# Altium schematic symbol library SCH - MCU - STM32 - ST MICROELECTRONICS STM32F423ZHJX UFBGA144.SchLib: 1 symbol
Pins are listed as number, name and electrical type; pins without a type are passive.

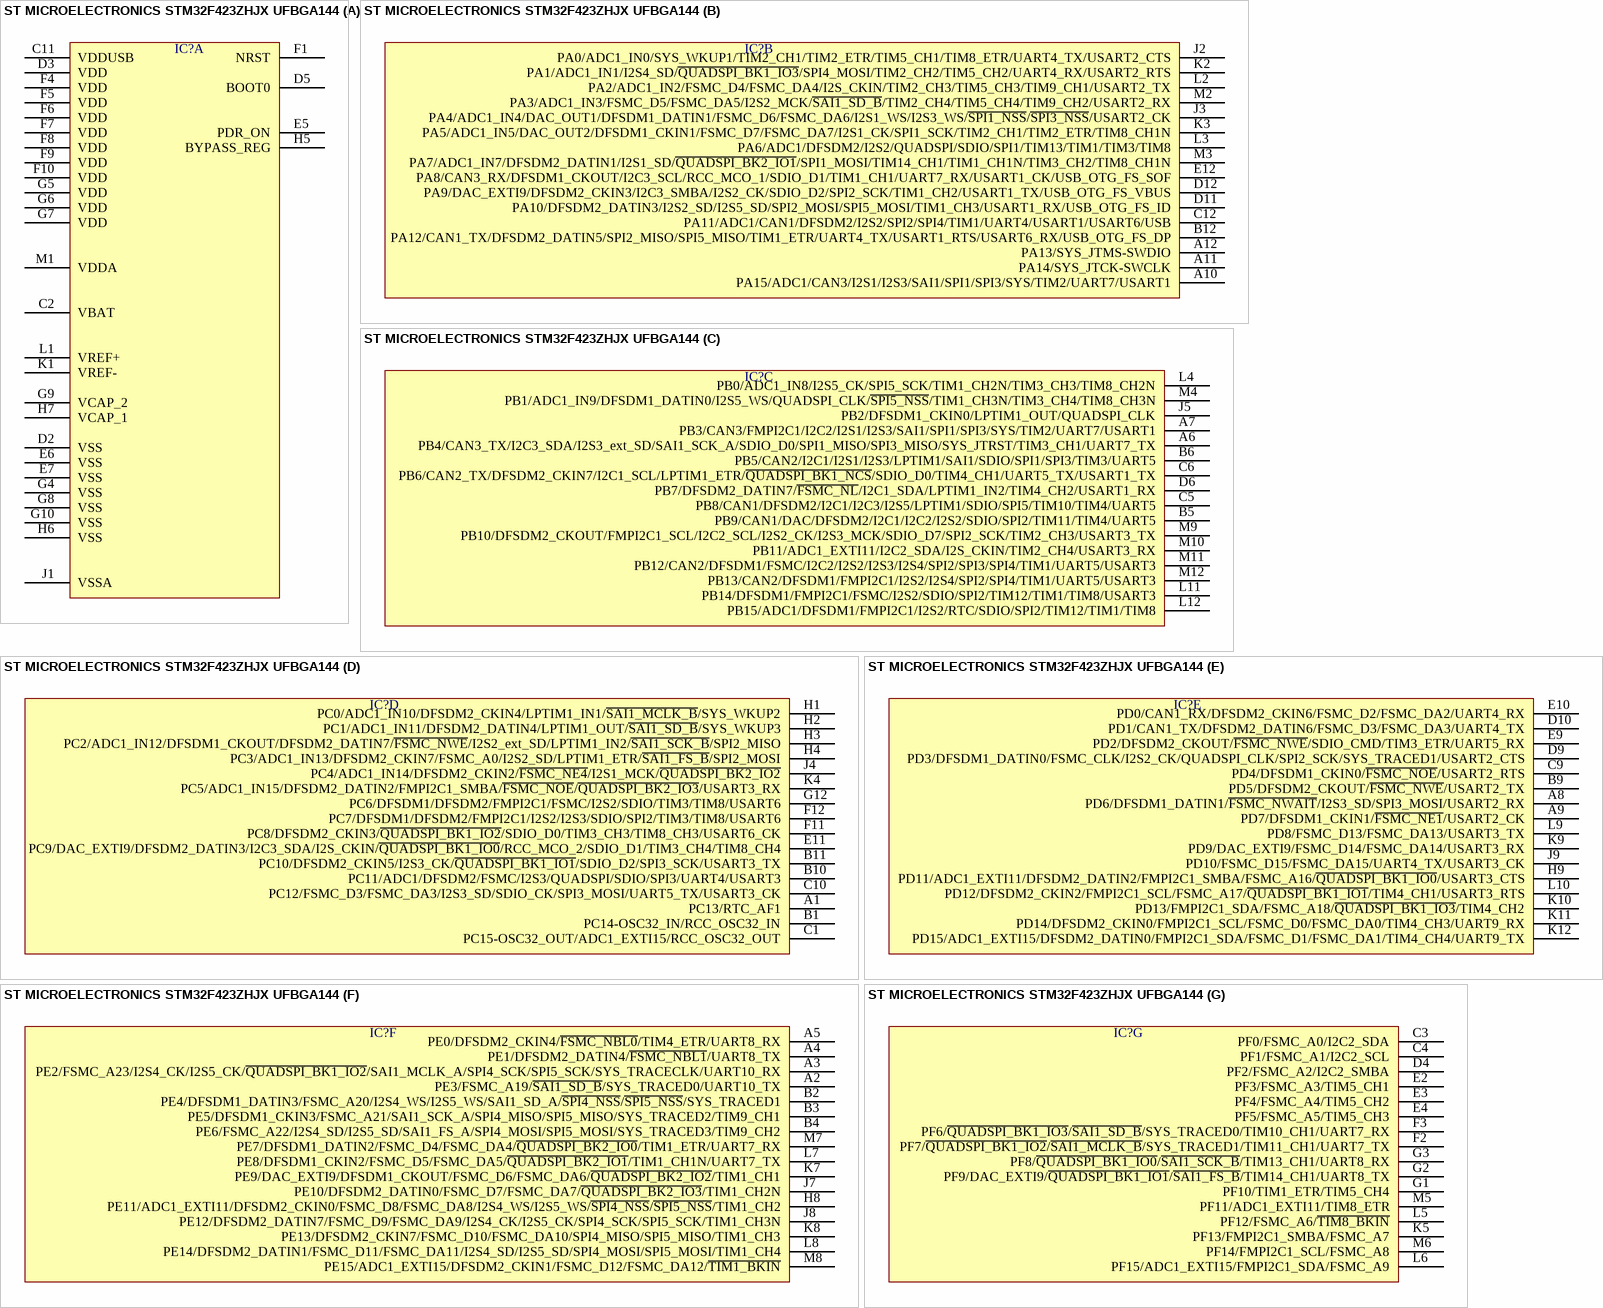
[diagram p0: symbol ST MICROELECTRONICS STM32F423ZHJX UFBGA144]

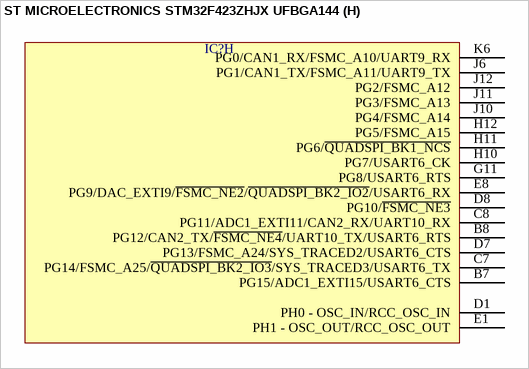
[diagram p1: symbol ST MICROELECTRONICS STM32F423ZHJX UFBGA144]

## ST MICROELECTRONICS STM32F423ZHJX UFBGA144
designator IC?  (value not drawn)
part A pins: C2 VBAT, C11 VDDUSB, D2 VSS, D3 VDD, D5 BOOT0, E5 PDR_ON, E6 VSS, E7 VSS, F1 NRST, F4 VDD, F5 VDD, F6 VDD, F7 VDD, F8 VDD, F9 VDD, F10 VDD, G4 VSS, G5 VDD, G6 VDD, G7 VDD, G8 VSS, G9 VCAP_2, G10 VSS, H5 BYPASS_REG, H6 VSS, H7 VCAP_1, J1 VSSA, K1 VREF-, L1 VREF+, M1 VDDA
part B pins: A10 PA15/ADC1/CAN3/I2S1/I2S3/SAI1/SPI1/SPI3/SYS/TIM2/UART7/USART1, A11 PA14/SYS_JTCK-SWCLK, A12 PA13/SYS_JTMS-SWDIO, B12 PA12/CAN1_TX/DFSDM2_DATIN5/SPI2_MISO/SPI5_MISO/TIM1_ETR/UART4_TX/USART1_RTS/USART6_RX/USB_OTG_FS_DP, C12 PA11/ADC1/CAN1/DFSDM2/I2S2/SPI2/SPI4/TIM1/UART4/USART1/USART6/USB, D11 PA10/DFSDM2_DATIN3/I2S2_SD/I2S5_SD/SPI2_MOSI/SPI5_MOSI/TIM1_CH3/USART1_RX/USB_OTG_FS_ID, D12 PA9/DAC_EXTI9/DFSDM2_CKIN3/I2C3_SMBA/I2S2_CK/SDIO_D2/SPI2_SCK/TIM1_CH2/USART1_TX/USB_OTG_FS_VBUS, E12 PA8/CAN3_RX/DFSDM1_CKOUT/I2C3_SCL/RCC_MCO_1/SDIO_D1/TIM1_CH1/UART7_RX/USART1_CK/USB_OTG_FS_SOF, J2 PA0/ADC1_IN0/SYS_WKUP1/TIM2_CH1/TIM2_ETR/TIM5_CH1/TIM8_ETR/UART4_TX/USART2_CTS, J3 PA4/ADC1_IN4/DAC_OUT1/DFSDM1_DATIN1/FSMC_D6/FSMC_DA6/I2S1_WS/I2S3_WS/~{SPI1_NSS}/~{SPI3_NSS}/USART2_CK, K2 PA1/ADC1_IN1/I2S4_SD/~{QUADSPI_BK1_IO3}/SPI4_MOSI/TIM2_CH2/TIM5_CH2/UART4_RX/USART2_RTS, K3 PA5/ADC1_IN5/DAC_OUT2/DFSDM1_CKIN1/FSMC_D7/FSMC_DA7/I2S1_CK/SPI1_SCK/TIM2_CH1/TIM2_ETR/TIM8_CH1N, L2 PA2/ADC1_IN2/FSMC_D4/FSMC_DA4/I2S_CKIN/TIM2_CH3/TIM5_CH3/TIM9_CH1/USART2_TX, L3 PA6/ADC1/DFSDM2/I2S2/QUADSPI/SDIO/SPI1/TIM13/TIM1/TIM3/TIM8, M2 PA3/ADC1_IN3/FSMC_D5/FSMC_DA5/I2S2_MCK/~{SAI1_SD_B}/TIM2_CH4/TIM5_CH4/TIM9_CH2/USART2_RX, M3 PA7/ADC1_IN7/DFSDM2_DATIN1/I2S1_SD/~{QUADSPI_BK2_IO1}/SPI1_MOSI/TIM14_CH1/TIM1_CH1N/TIM3_CH2/TIM8_CH1N
part C pins: A6 PB4/CAN3_TX/I2C3_SDA/I2S3_ext_SD/SAI1_SCK_A/SDIO_D0/SPI1_MISO/SPI3_MISO/SYS_JTRST/TIM3_CH1/UART7_TX, A7 PB3/CAN3/FMPI2C1/I2C2/I2S1/I2S3/SAI1/SPI1/SPI3/SYS/TIM2/UART7/USART1, B5 PB9/CAN1/DAC/DFSDM2/I2C1/I2C2/I2S2/SDIO/SPI2/TIM11/TIM4/UART5, B6 PB5/CAN2/I2C1/I2S1/I2S3/LPTIM1/SAI1/SDIO/SPI1/SPI3/TIM3/UART5, C5 PB8/CAN1/DFSDM2/I2C1/I2C3/I2S5/LPTIM1/SDIO/SPI5/TIM10/TIM4/UART5, C6 PB6/CAN2_TX/DFSDM2_CKIN7/I2C1_SCL/LPTIM1_ETR/~{QUADSPI_BK1_NCS}/SDIO_D0/TIM4_CH1/UART5_TX/USART1_TX, D6 PB7/DFSDM2_DATIN7/~{FSMC_NL}/I2C1_SDA/LPTIM1_IN2/TIM4_CH2/USART1_RX, J5 PB2/DFSDM1_CKIN0/LPTIM1_OUT/QUADSPI_CLK, L4 PB0/ADC1_IN8/I2S5_CK/SPI5_SCK/TIM1_CH2N/TIM3_CH3/TIM8_CH2N, L11 PB14/DFSDM1/FMPI2C1/FSMC/I2S2/SDIO/SPI2/TIM12/TIM1/TIM8/USART3, L12 PB15/ADC1/DFSDM1/FMPI2C1/I2S2/RTC/SDIO/SPI2/TIM12/TIM1/TIM8, M4 PB1/ADC1_IN9/DFSDM1_DATIN0/I2S5_WS/QUADSPI_CLK/~{SPI5_NSS}/TIM1_CH3N/TIM3_CH4/TIM8_CH3N, M9 PB10/DFSDM2_CKOUT/FMPI2C1_SCL/I2C2_SCL/I2S2_CK/I2S3_MCK/SDIO_D7/SPI2_SCK/TIM2_CH3/USART3_TX, M10 PB11/ADC1_EXTI11/I2C2_SDA/I2S_CKIN/TIM2_CH4/USART3_RX, M11 PB12/CAN2/DFSDM1/FSMC/I2C2/I2S2/I2S3/I2S4/SPI2/SPI3/SPI4/TIM1/UART5/USART3, M12 PB13/CAN2/DFSDM1/FMPI2C1/I2S2/I2S4/SPI2/SPI4/TIM1/UART5/USART3
part D pins: A1 PC13/RTC_AF1, B1 PC14-OSC32_IN/RCC_OSC32_IN, B10 PC11/ADC1/DFSDM2/FSMC/I2S3/QUADSPI/SDIO/SPI3/UART4/USART3, B11 PC10/DFSDM2_CKIN5/I2S3_CK/~{QUADSPI_BK1_IO1}/SDIO_D2/SPI3_SCK/USART3_TX, C1 PC15-OSC32_OUT/ADC1_EXTI15/RCC_OSC32_OUT, C10 PC12/FSMC_D3/FSMC_DA3/I2S3_SD/SDIO_CK/SPI3_MOSI/UART5_TX/USART3_CK, E11 PC9/DAC_EXTI9/DFSDM2_DATIN3/I2C3_SDA/I2S_CKIN/~{QUADSPI_BK1_IO0}/RCC_MCO_2/SDIO_D1/TIM3_CH4/TIM8_CH4, F11 PC8/DFSDM2_CKIN3/~{QUADSPI_BK1_IO2}/SDIO_D0/TIM3_CH3/TIM8_CH3/USART6_CK, F12 PC7/DFSDM1/DFSDM2/FMPI2C1/I2S2/I2S3/SDIO/SPI2/TIM3/TIM8/USART6, G12 PC6/DFSDM1/DFSDM2/FMPI2C1/FSMC/I2S2/SDIO/TIM3/TIM8/USART6, H1 PC0/ADC1_IN10/DFSDM2_CKIN4/LPTIM1_IN1/~{SAI1_MCLK_B}/SYS_WKUP2, H2 PC1/ADC1_IN11/DFSDM2_DATIN4/LPTIM1_OUT/~{SAI1_SD_B}/SYS_WKUP3, H3 PC2/ADC1_IN12/DFSDM1_CKOUT/DFSDM2_DATIN7/~{FSMC_NWE}/I2S2_ext_SD/LPTIM1_IN2/~{SAI1_SCK_B}/SPI2_MISO, H4 PC3/ADC1_IN13/DFSDM2_CKIN7/FSMC_A0/I2S2_SD/LPTIM1_ETR/~{SAI1_FS_B}/SPI2_MOSI, J4 PC4/ADC1_IN14/DFSDM2_CKIN2/~{FSMC_NE4}/I2S1_MCK/~{QUADSPI_BK2_IO2}, K4 PC5/ADC1_IN15/DFSDM2_DATIN2/FMPI2C1_SMBA/~{FSMC_NOE}/~{QUADSPI_BK2_IO3}/USART3_RX
part E pins: A8 PD6/DFSDM1_DATIN1/~{FSMC_NWAIT}/I2S3_SD/SPI3_MOSI/USART2_RX, A9 PD7/DFSDM1_CKIN1/~{FSMC_NE1}/USART2_CK, B9 PD5/DFSDM2_CKOUT/~{FSMC_NWE}/USART2_TX, C9 PD4/DFSDM1_CKIN0/~{FSMC_NOE}/USART2_RTS, D9 PD3/DFSDM1_DATIN0/FSMC_CLK/I2S2_CK/QUADSPI_CLK/SPI2_SCK/SYS_TRACED1/USART2_CTS, D10 PD1/CAN1_TX/DFSDM2_DATIN6/FSMC_D3/FSMC_DA3/UART4_TX, E9 PD2/DFSDM2_CKOUT/~{FSMC_NWE}/SDIO_CMD/TIM3_ETR/UART5_RX, E10 PD0/CAN1_RX/DFSDM2_CKIN6/FSMC_D2/FSMC_DA2/UART4_RX, H9 PD11/ADC1_EXTI11/DFSDM2_DATIN2/FMPI2C1_SMBA/FSMC_A16/~{QUADSPI_BK1_IO0}/USART3_CTS, J9 PD10/FSMC_D15/FSMC_DA15/UART4_TX/USART3_CK, K9 PD9/DAC_EXTI9/FSMC_D14/FSMC_DA14/USART3_RX, K10 PD13/FMPI2C1_SDA/FSMC_A18/~{QUADSPI_BK1_IO3}/TIM4_CH2, K11 PD14/DFSDM2_CKIN0/FMPI2C1_SCL/FSMC_D0/FSMC_DA0/TIM4_CH3/UART9_RX, K12 PD15/ADC1_EXTI15/DFSDM2_DATIN0/FMPI2C1_SDA/FSMC_D1/FSMC_DA1/TIM4_CH4/UART9_TX, L9 PD8/FSMC_D13/FSMC_DA13/USART3_TX, L10 PD12/DFSDM2_CKIN2/FMPI2C1_SCL/FSMC_A17/~{QUADSPI_BK1_IO1}/TIM4_CH1/USART3_RTS
part F pins: A2 PE3/FSMC_A19/~{SAI1_SD_B}/SYS_TRACED0/UART10_TX, A3 PE2/FSMC_A23/I2S4_CK/I2S5_CK/~{QUADSPI_BK1_IO2}/SAI1_MCLK_A/SPI4_SCK/SPI5_SCK/SYS_TRACECLK/UART10_RX, A4 PE1/DFSDM2_DATIN4/~{FSMC_NBL1}/UART8_TX, A5 PE0/DFSDM2_CKIN4/~{FSMC_NBL0}/TIM4_ETR/UART8_RX, B2 PE4/DFSDM1_DATIN3/FSMC_A20/I2S4_WS/I2S5_WS/SAI1_SD_A/~{SPI4_NSS}/~{SPI5_NSS}/SYS_TRACED1, B3 PE5/DFSDM1_CKIN3/FSMC_A21/SAI1_SCK_A/SPI4_MISO/SPI5_MISO/SYS_TRACED2/TIM9_CH1, B4 PE6/FSMC_A22/I2S4_SD/I2S5_SD/SAI1_FS_A/SPI4_MOSI/SPI5_MOSI/SYS_TRACED3/TIM9_CH2, H8 PE11/ADC1_EXTI11/DFSDM2_CKIN0/FSMC_D8/FSMC_DA8/I2S4_WS/I2S5_WS/~{SPI4_NSS}/~{SPI5_NSS}/TIM1_CH2, J7 PE10/DFSDM2_DATIN0/FSMC_D7/FSMC_DA7/~{QUADSPI_BK2_IO3}/TIM1_CH2N, J8 PE12/DFSDM2_DATIN7/FSMC_D9/FSMC_DA9/I2S4_CK/I2S5_CK/SPI4_SCK/SPI5_SCK/TIM1_CH3N, K7 PE9/DAC_EXTI9/DFSDM1_CKOUT/FSMC_D6/FSMC_DA6/~{QUADSPI_BK2_IO2}/TIM1_CH1, K8 PE13/DFSDM2_CKIN7/FSMC_D10/FSMC_DA10/SPI4_MISO/SPI5_MISO/TIM1_CH3, L7 PE8/DFSDM1_CKIN2/FSMC_D5/FSMC_DA5/~{QUADSPI_BK2_IO1}/TIM1_CH1N/UART7_TX, L8 PE14/DFSDM2_DATIN1/FSMC_D11/FSMC_DA11/I2S4_SD/I2S5_SD/SPI4_MOSI/SPI5_MOSI/TIM1_CH4, M7 PE7/DFSDM1_DATIN2/FSMC_D4/FSMC_DA4/~{QUADSPI_BK2_IO0}/TIM1_ETR/UART7_RX, M8 PE15/ADC1_EXTI15/DFSDM2_CKIN1/FSMC_D12/FSMC_DA12/~{TIM1_BKIN}
part G pins: C3 PF0/FSMC_A0/I2C2_SDA, C4 PF1/FSMC_A1/I2C2_SCL, D4 PF2/FSMC_A2/I2C2_SMBA, E2 PF3/FSMC_A3/TIM5_CH1, E3 PF4/FSMC_A4/TIM5_CH2, E4 PF5/FSMC_A5/TIM5_CH3, F2 PF7/~{QUADSPI_BK1_IO2}/~{SAI1_MCLK_B}/SYS_TRACED1/TIM11_CH1/UART7_TX, F3 PF6/~{QUADSPI_BK1_IO3}/~{SAI1_SD_B}/SYS_TRACED0/TIM10_CH1/UART7_RX, G1 PF10/TIM1_ETR/TIM5_CH4, G2 PF9/DAC_EXTI9/~{QUADSPI_BK1_IO1}/~{SAI1_FS_B}/TIM14_CH1/UART8_TX, G3 PF8/~{QUADSPI_BK1_IO0}/~{SAI1_SCK_B}/TIM13_CH1/UART8_RX, K5 PF13/FMPI2C1_SMBA/FSMC_A7, L5 PF12/FSMC_A6/~{TIM8_BKIN}, L6 PF15/ADC1_EXTI15/FMPI2C1_SDA/FSMC_A9, M5 PF11/ADC1_EXTI11/TIM8_ETR, M6 PF14/FMPI2C1_SCL/FSMC_A8
part H pins: B7 PG15/ADC1_EXTI15/USART6_CTS, B8 PG12/CAN2_TX/~{FSMC_NE4}/UART10_TX/USART6_RTS, C7 PG14/FSMC_A25/~{QUADSPI_BK2_IO3}/SYS_TRACED3/USART6_TX, C8 PG11/ADC1_EXTI11/CAN2_RX/UART10_RX, D1 PH0 - OSC_IN/RCC_OSC_IN, D7 PG13/FSMC_A24/SYS_TRACED2/USART6_CTS, D8 PG10/~{FSMC_NE3}, E1 PH1 - OSC_OUT/RCC_OSC_OUT, E8 PG9/DAC_EXTI9/~{FSMC_NE2}/~{QUADSPI_BK2_IO2}/USART6_RX, G11 PG8/USART6_RTS, H10 PG7/USART6_CK, H11 PG6/~{QUADSPI_BK1_NCS}, H12 PG5/FSMC_A15, J6 PG1/CAN1_TX/FSMC_A11/UART9_TX, J10 PG4/FSMC_A14, J11 PG3/FSMC_A13, J12 PG2/FSMC_A12, K6 PG0/CAN1_RX/FSMC_A10/UART9_RX